# Altium footprint library drone_pcb1.PcbLib: 55 footprints (part 2 of 4)
Each footprint in its own frame and in the unit in brackets; x right, y up, seen from the top. Pads: shape width x height; smd on the part's side, far side on the other; paste and mask are expansions set on the pad; w line width, h text height; cw(c..) or ccw(c..) is an arc to the next point about the centre after c.
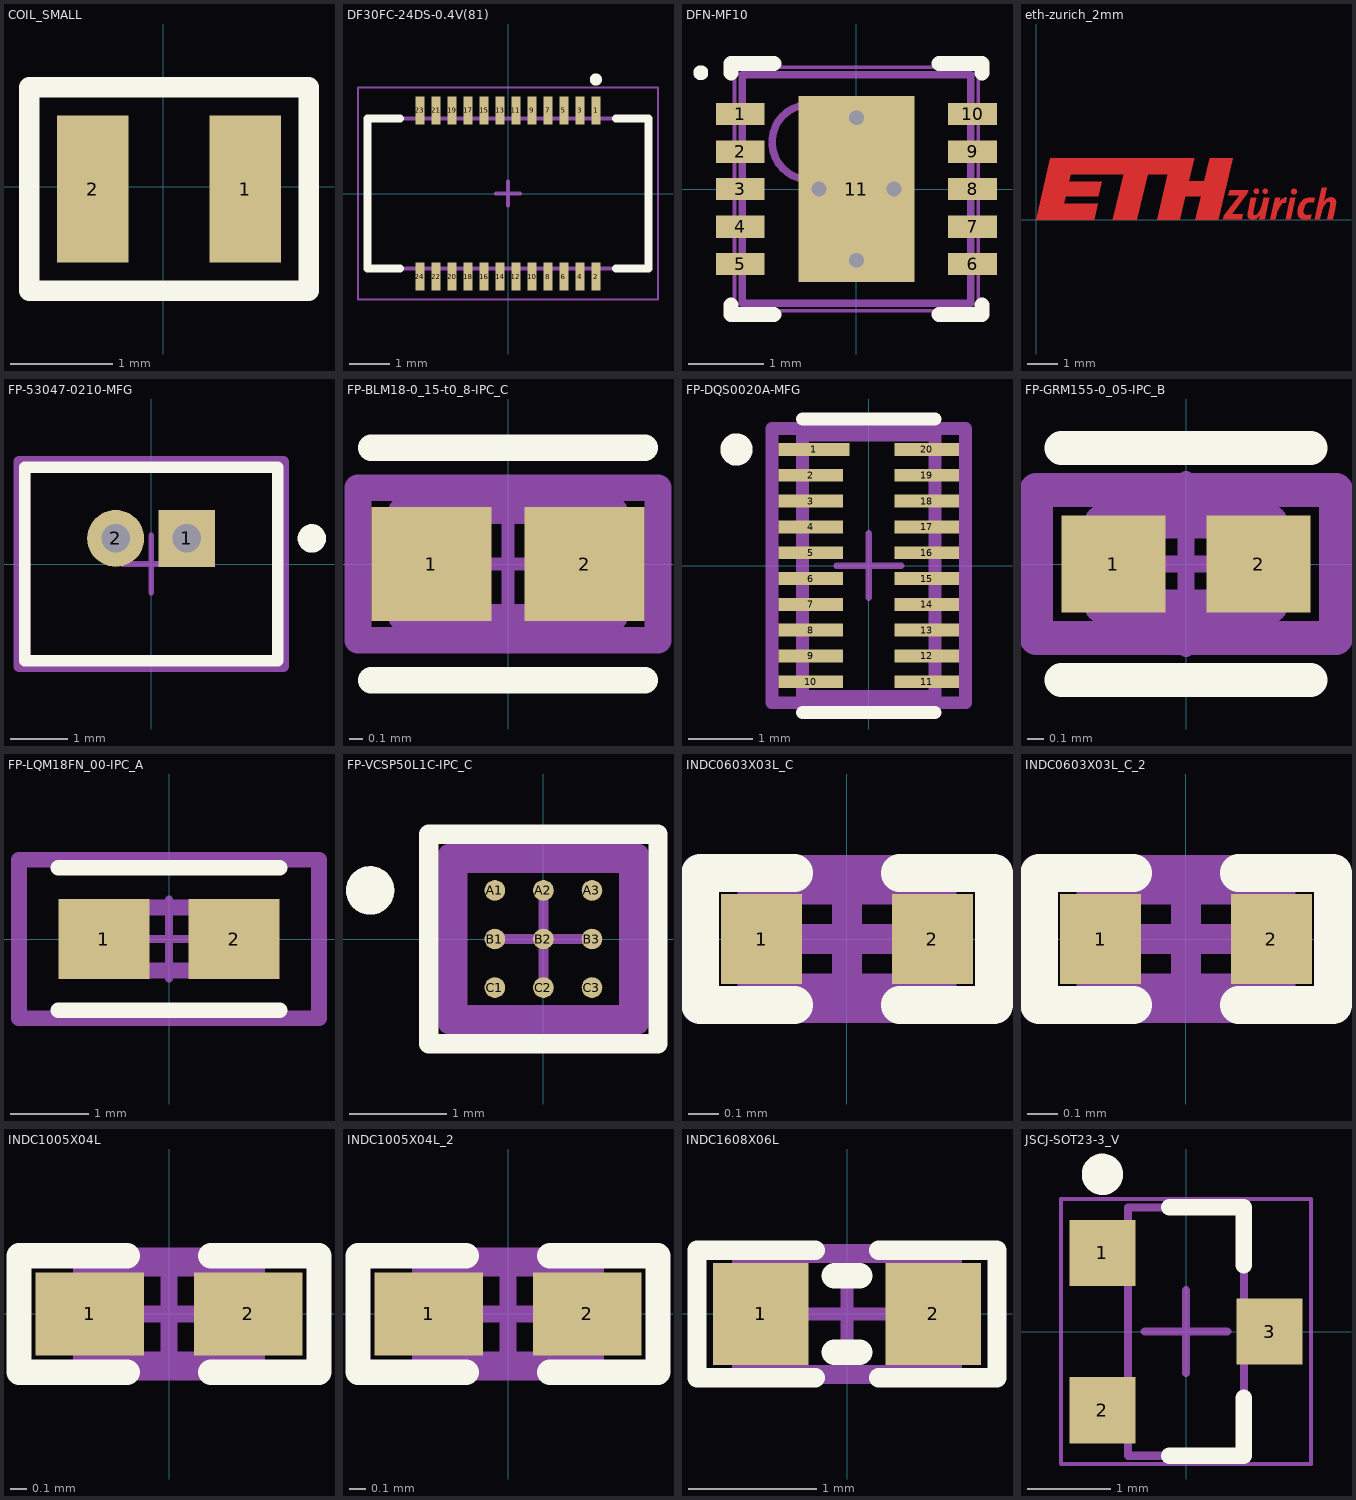
[diagram p1: the footprints below, top view; thin cyan lines are the x and y axes]

## COIL_SMALL [mm]
pads (2):
  rect 0.7x1.45 smd: 1(0.806,-0.02) 2(-0.694,-0.02)
Top Overlay:
  lines w0.2: -1.319,-1.02 -1.319,0.98 1.431,0.98 1.431,-0.02 1.431,-1.02 -1.319,-1.02
3D body: height 1, standoff 0, extent -0.95,-0.65 1.05,0.6

## DF30FC-24DS-0.4V(81) [mm] "CONN RCPT 24POS SMD GOLD"
height 0.9
pads (24):
  rect 0.23x0.7 smd mask+0.025: 1(2.2,2.08) 2(2.2,-2.08) 3(1.8,2.08) 4(1.8,-2.08) 5(1.4,2.08) 6(1.4,-2.08) 7(1,2.08) 8(1,-2.08) 9(0.6,2.08) 10(0.6,-2.08) 11(0.2,2.08) 12(0.2,-2.08) 13(-0.2,2.08) 14(-0.2,-2.08) 15(-0.6,2.08) 16(-0.6,-2.08) 17(-1,2.08) 18(-1,-2.08) 19(-1.4,2.08) 20(-1.4,-2.08) 21(-1.8,2.08) 22(-1.8,-2.08) 23(-2.2,2.08) 24(-2.2,-2.08)
Top Overlay:
  circle w0.254: c2.2,2.85 r0.025
  lines w0.2: -2.7,-1.88 -3.51,-1.88 -3.51,1.88 -2.7,1.88 ; 2.7,-1.88 3.51,-1.88 3.51,1.88 2.7,1.88
Mechanical 12:
  lines w0.1: -3.51,-1.88 -3.51,1.88 3.51,1.88 3.51,-1.88 -3.51,-1.88
Mechanical 15:
  lines w0.05: -3.75,-2.65 -3.75,2.65 3.75,2.65 3.75,-2.65 -3.75,-2.65
  lines w0.1: -0.3,0 0.3,0 ; 0,-0.3 0,0.3
3D body "DF30FC-24DS-0.4V.stp": height 0.91, standoff 0.01, extent -3.51,-2.28 3.51,2.28

## DFN-MF10 [mm] "SON, 10-Leads, Body 3x3mm, Pitch 0.5mm, Microchip Recommended"
height 1
pads (11):
  rect 0.65x0.3 smd: 1(-1.55,1) 2(-1.55,0.5) 3(-1.55,0) 4(-1.55,-0.5) 5(-1.55,-1) 6(1.55,-1) 7(1.55,-0.5) 8(1.55,0) 9(1.55,0.5) 10(1.55,1)
  rect 1.55x2.48 smd: 11(0,0)
via 0,-0.95 diameter 0.5 hole 0.2
via 0,0.95 diameter 0.5 hole 0.2
via 0.5,0 diameter 0.5 hole 0.2
via -0.5,0 diameter 0.5 hole 0.2
Top Overlay:
  circle w0.1: c-2.075,1.55 r0.05
  lines w0.2: -1.675,-1.55 -1.675,-1.675 -1.1,-1.675 ; -1.675,1.55 -1.675,1.675 -1.1,1.675 ; 1.1,-1.675 1.675,-1.675 1.675,-1.55 ; 1.1,1.675 1.675,1.675 1.675,1.55
Mechanical 13:
  circle w0.1: c-0.625,0.625 r0.5
  lines w0.1: -1.525,-1.525 1.525,-1.525 1.525,1.525 -1.525,1.525 -1.525,-1.525
Mechanical 15:
  lines w0.05: -1.625,-1.625 -1.625,1.625 1.625,1.625 1.625,-1.625 -1.625,-1.625
  lines w0.1: -0.5,0 0.5,0 ; 0,-0.5 0,0.5
3D body: height 1, standoff 0, extent -1.524,-1.524 1.524,1.524

## eth-zurich_2mm [mm] "Logo ETH Zurich"
height 15
Top Layer:
  circle w0.2: c8.399,0.915 r0.001
  circle w0.18: c7.462,0.926 r0.001
  circle w0.18: c7.176,0.926 r0.001
  region: 9.412,0.64 9.366,0.586 9.467,1.041 9.303,1.041 9.076,0.016 9.24,0.016 9.3,0.289 9.334,0.37 9.374,0.442 9.414,0.506 9.454,0.548 9.486,0.57 9.518,0.586 9.542,0.586 9.566,0.578 9.582,0.562 9.586,0.538 9.586,0.506 9.582,0.478 9.479,0.016 9.657,0.016 9.734,0.37 9.763,0.502 9.766,0.562 9.758,0.618 9.742,0.666 9.71,0.698 9.67,0.722 9.638,0.73 9.574,0.73 9.51,0.714 9.454,0.682
  region: 9.076,0.701 9.04,0.714 9,0.72 8.936,0.72 8.864,0.714 8.788,0.696 8.724,0.664 8.672,0.624 8.64,0.592 8.608,0.552 8.58,0.504 8.56,0.456 8.54,0.4 8.528,0.348 8.52,0.296 8.52,0.228 8.528,0.168 8.54,0.128 8.56,0.088 8.584,0.056 8.616,0.032 8.652,0.016 8.688,0.008 8.768,0 8.808,0 8.88,0.008 8.925,0.019 8.944,0.024 8.961,0.181 8.924,0.168 8.872,0.156 8.832,0.152 8.804,0.152 8.772,0.16 8.744,0.176 8.728,0.192 8.716,0.216 8.708,0.244 8.704,0.272 8.704,0.308 8.712,0.36 8.728,0.412 8.748,0.456 8.772,0.492 8.808,0.536 8.84,0.556 8.872,0.568 8.904,0.572 8.952,0.572 8.996,0.568 9.016,0.564 9.044,0.556
  region: 8.292,0.016 8.447,0.714 8.283,0.714 8.128,0.016
  region: 7.905,0.52 7.948,0.714 7.784,0.714 7.629,0.016 7.793,0.016 7.818,0.129 7.856,0.252 7.9,0.36 7.936,0.428 7.986,0.494 8.02,0.528 8.048,0.548 8.076,0.56 8.096,0.56 8.123,0.553 8.16,0.72 8.136,0.724 8.112,0.724 8.088,0.72 8.052,0.704 8.028,0.688 7.996,0.66 7.968,0.632 7.936,0.584
  region: 7.444,0.016 7.599,0.714 7.414,0.714 7.354,0.441 7.32,0.36 7.28,0.288 7.24,0.224 7.2,0.182 7.168,0.16 7.136,0.144 7.112,0.144 7.088,0.152 7.072,0.168 7.068,0.192 7.068,0.224 7.072,0.252 7.175,0.714 6.997,0.714 6.92,0.36 6.891,0.228 6.888,0.168 6.896,0.112 6.912,0.064 6.944,0.032 6.984,0.008 7.016,0 7.08,0 7.144,0.016 7.2,0.048 7.242,0.09 7.288,0.144 7.26,0.016
  region: 6.906,0.96 6.301,0.96 6.264,0.794 6.63,0.794 6.115,0.123 6.092,0.016 6.696,0.016 6.733,0.182 6.366,0.182 6.883,0.856
  region: 5.93,0 6.4,2 5.662,2 5.485,1.247 4.973,1.247 5.149,2 0.47,2 0,0 0.781,0 1.892,0 2.014,0.52 0.904,0.52 0.961,0.764 2.023,0.764 2.136,1.244 1.073,1.244 1.129,1.48 2.849,1.48 2.5,0 3.282,0 3.63,1.48 4.289,1.48 3.942,0 4.68,0 4.86,0.767 5.372,0.767 5.192,0
Top Solder:
  drawing of 10 lines, arcs and shapes, not listed

## FP-53047-0210-MFG [mm]
pads (2):
  rect 1x1 hole 0.5 paste-1000 mask+0: 1(0.625,0.45)
  round 1 hole 0.5 paste-1000 mask+0: 2(-0.625,0.45)
Top Overlay:
  circle w0.25: c2.825,0.45 r0.125
  lines w0.2: -2.225,-1.7 2.225,-1.7 2.225,1.7 -2.225,1.7 -2.225,-1.7
Top 3D Body:
  lines w0.2: -2.225,-1.7 2.225,-1.7 2.225,1.7 -2.225,1.7 -2.225,-1.7
Top Courtyard:
  lines w0.2: -2.325,-1.8 2.325,-1.8 2.325,1.8 -2.325,1.8 -2.325,-1.8
Top Assembly:
  lines w0.2: -2.325,-1.8 2.325,-1.8 2.325,1.8 -2.325,1.8 -2.325,-1.8
  text ".Designator" at 0,0.188 h1
Top Component Center:
  lines w0.1: -0.5,0 0.5,0 ; 0,-0.5 0,0.5
3D body "Conn_Molex_53047-0210_eec.STEP": height 4.4, standoff -2.3, extent -2.125,-1.603 2.125,1.598

## FP-BLM18-0_15-t0_8-IPC_C [mm]
pads (2):
  rect 0.906x0.858 smd paste+0 mask+0: 1(-0.576,0) 2(0.576,0)
Top Overlay:
  lines w0.2: -1.029,-0.875 1.029,-0.875 ; -1.029,0.875 1.029,0.875
Top 3D Body:
  lines w0.2: -0.8,-0.4 -0.8,0.4 0.8,0.4 0.8,-0.4 -0.8,-0.4
Top Courtyard:
  lines w0.2: -1.129,-0.575 -1.129,0.575 1.129,0.575 1.129,-0.575 -1.129,-0.575
Top Assembly:
  lines w0.2: -1.129,-0.575 -1.129,0.575 1.129,0.575 1.129,-0.575 -1.129,-0.575
  text ".Designator" at 0,0.188 h1
Top Component Center:
  lines w0.1: -0.5,0 0.5,0 ; 0,-0.5 0,0.5
3D body "FBead_Murata_BLM18EG221SN1D_eec.STEP": height 0.95, standoff 0, extent -0.8,-0.4 0.8,0.4

## FP-DQS0020A-MFG [mm]
pads (20):
  rect 1.1x0.2 smd paste-1000 mask+0: 1(-0.85,1.8)
  rect 1x0.2 smd paste-1000 mask+0: 2(-0.9,1.4) 3(-0.9,1) 4(-0.9,0.6) 5(-0.9,0.2) 6(-0.9,-0.2) 7(-0.9,-0.6) 8(-0.9,-1) 9(-0.9,-1.4) 10(-0.9,-1.8) 11(0.9,-1.8) 12(0.9,-1.4) 13(0.9,-1) 14(0.9,-0.6) 15(0.9,-0.2) 16(0.9,0.2) 17(0.9,0.6) 18(0.9,1) 19(0.9,1.4) 20(0.9,1.8)
Top Overlay:
  circle w0.25: c-2.05,1.8 r0.125
  lines w0.2: -1.025,-2.275 1.025,-2.275 ; -1.025,2.275 1.025,2.275
Top Paste:
  rectangle: 0.425,-1.9 1.375,-1.7
  rectangle: 0.425,-1.5 1.375,-1.3
  rectangle: 0.425,-1.1 1.375,-0.9
  rectangle: 0.425,-0.7 1.375,-0.5
  rectangle: 0.425,-0.3 1.375,-0.1
  rectangle: 0.425,0.1 1.375,0.3
  rectangle: 0.425,0.5 1.375,0.7
  rectangle: 0.425,0.9 1.375,1.1
  rectangle: 0.425,1.3 1.375,1.5
  rectangle: 0.425,1.7 1.375,1.9
  rectangle: -1.375,-1.9 -0.425,-1.7
  rectangle: -1.375,-1.5 -0.425,-1.3
  rectangle: -1.375,-1.1 -0.425,-0.9
  rectangle: -1.375,-0.7 -0.425,-0.5
  rectangle: -1.375,-0.3 -0.425,-0.1
  rectangle: -1.375,0.1 -0.425,0.3
  rectangle: -1.375,0.5 -0.425,0.7
  rectangle: -1.375,0.9 -0.425,1.1
  rectangle: -1.375,1.3 -0.425,1.5
  rectangle: -1.375,1.7 -0.325,1.9
Top 3D Body:
  lines w0.2: -1.025,-2.025 -1.025,2.025 1.025,2.025 1.025,-2.025 -1.025,-2.025
Top Courtyard:
  lines w0.2: -1.5,-2.125 -1.5,2.125 1.5,2.125 1.5,-2.125 -1.5,-2.125
Top Assembly:
  lines w0.2: -1.5,-2.125 -1.5,2.125 1.5,2.125 1.5,-2.125 -1.5,-2.125
  text ".Designator" at 0,0.188 h1
Top Component Center:
  lines w0.1: -0.5,0 0.5,0 ; 0,-0.5 0,0.5
3D body "IC_Texas_Instruments_TXB0108DQSR_eec.STEP": height 0.25, standoff 0, extent -1.5,-2.125 1.5,2.125

## FP-GRM155-0_05-IPC_B [mm]
pads (2):
  rect 0.615x0.572 smd paste+0 mask+0: 1(-0.429,0) 2(0.429,0)
Top Overlay:
  lines w0.2: -0.736,-0.686 0.736,-0.686 ; -0.736,0.686 0.736,0.686
Top 3D Body:
  lines w0.2: -0.5,-0.25 -0.5,0.25 0.5,0.25 0.5,-0.25 -0.5,-0.25
Top Courtyard:
  lines w0.2: -0.886,-0.436 -0.886,0.436 0.886,0.436 0.886,-0.436 -0.886,-0.436
Top Assembly:
  lines w0.2: -0.886,-0.436 -0.886,0.436 0.886,0.436 0.886,-0.436 -0.886,-0.436
  text ".Designator" at 0,0.188 h1
Top Component Center:
  lines w0.1: -0.5,0 0.5,0 ; 0,-0.5 0,0.5
3D body "Cap_Murata_GRM1552C1H271GA01J_eec.STEP": height 0.25, standoff 0, extent -0.886,-0.436 0.886,0.436

## FP-LQM18FN_00-IPC_A [mm]
pads (2):
  rect 1.158x1.012 smd paste+0 mask+0: 1(-0.827,0) 2(0.827,0)
Top Overlay:
  lines w0.2: -1.406,-0.906 1.406,-0.906 ; -1.406,0.906 1.406,0.906
Top 3D Body:
  lines w0.2: -0.8,-0.4 -0.8,0.4 0.8,0.4 0.8,-0.4 -0.8,-0.4
Top Courtyard:
  lines w0.2: -1.906,-1.006 -1.906,1.006 1.906,1.006 1.906,-1.006 -1.906,-1.006
Top Assembly:
  lines w0.2: -1.906,-1.006 -1.906,1.006 1.906,1.006 1.906,-1.006 -1.906,-1.006
  text ".Designator" at 0,0.188 h1
Top Component Center:
  lines w0.1: -0.5,0 0.5,0 ; 0,-0.5 0,0.5
3D body "Ind_Murata_LQM18FN4R7M00J_eec.STEP": height 0.25, standoff 0, extent -1.906,-1.006 1.906,1.006

## FP-VCSP50L1C-IPC_C [mm]
pads (9):
  round 0.212 smd paste+0 mask+0: A1(-0.5,0.5) A2(0,0.5) A3(0.5,0.5) B1(-0.5,0) B2(0,0) B3(0.5,0) C1(-0.5,-0.5) C2(0,-0.5) C3(0.5,-0.5)
Top Overlay:
  circle w0.25: c-1.785,0.5 r0.125
  lines w0.2: -1.18,-1.08 -1.18,1.08 1.18,1.08 1.18,-1.08 -1.18,-1.08
Top 3D Body:
  lines w0.2: -0.88,-0.78 -0.88,0.78 0.88,0.78 0.88,-0.78 -0.88,-0.78
Top Courtyard:
  lines w0.2: -0.98,-0.88 -0.98,0.88 0.98,0.88 0.98,-0.88 -0.98,-0.88
Top Assembly:
  lines w0.2: -0.98,-0.88 -0.98,0.88 0.98,0.88 0.98,-0.88 -0.98,-0.88
  text ".Designator" at 0,0.188 h1
Top Component Center:
  lines w0.1: -0.5,0 0.5,0 ; 0,-0.5 0,0.5
3D body "IC_Rohm_BD70522GUL-E2_eec.STEP": height 0.25, standoff 0, extent -0.98,-0.88 0.98,0.88

## INDC0603X03L_C [mm]
pads (2):
  rect 0.27x0.3 smd: 1(-0.285,0) 2(0.285,0)
Top Overlay:
  lines w0.125: -0.175,-0.22 -0.49,-0.22 -0.49,0.22 -0.175,0.22 ; 0.175,-0.22 0.49,-0.22 0.49,0.22 0.175,0.22
Mechanical 7:
  lines w0.1: -0.315,-0.165 0.315,-0.165 0.315,0.165 -0.315,0.165 -0.315,-0.165
  text ".Designator" at -0.457,0.152 h0.3
Mechanical 15:
  lines w0.1: -0.165,0 0.165,0 ; 0,-0.165 0,0.165 ; -0.5,-0.23 0.5,-0.23 0.5,0.23 -0.5,0.23 -0.5,-0.23
3D body "User Library-smt_inductor-0201.step": height 0.26, standoff -0.01, extent -0.31,-0.16 0.31,0.16

## INDC0603X03L_C_2 [mm]
pads (2):
  rect 0.27x0.3 smd: 1(-0.285,0) 2(0.285,0)
Top Overlay:
  lines w0.125: -0.175,-0.22 -0.49,-0.22 -0.49,0.22 -0.175,0.22 ; 0.175,-0.22 0.49,-0.22 0.49,0.22 0.175,0.22
Mechanical 7:
  lines w0.1: -0.315,-0.165 -0.315,0.165 0.315,0.165 0.315,-0.165 -0.315,-0.165
  text ".Designator" at -0.306,0.268 h0.3
Mechanical 15:
  lines w0.1: -0.165,0 0.165,0 ; 0,-0.165 0,0.165 ; -0.5,-0.23 -0.5,0.23 0.5,0.23 0.5,-0.23 -0.5,-0.23
3D body "User Library-smt_inductor-0201.step": height 0.26, standoff -0.01, extent -0.31,-0.16 0.31,0.16

## INDC1005X04L [mm]
pads (2):
  rect 0.65x0.5 smd: 1(-0.475,0) 2(0.475,0)
Top Overlay:
  lines w0.152: -0.25,-0.35 -0.9,-0.35 -0.9,0.35 -0.25,0.35 ; 0.25,-0.35 0.9,-0.35 0.9,0.35 0.25,0.35
Mechanical 7:
  lines w0.1: -0.525,-0.275 -0.525,0.275 0.525,0.275 0.525,-0.275 -0.525,-0.275
  text ".Designator" at -0.229,-0.142 h0.3
Mechanical 15:
  lines w0.1: -0.275,0 0.275,0 ; 0,-0.275 0,0.275 ; -0.9,-0.35 -0.9,0.35 0.9,0.35 0.9,-0.35 -0.9,-0.35
3D body "User Library-Chip Inductor 0402.step": height 0.5, standoff 0, extent -0.5,-0.3 0.5,0.3

## INDC1005X04L_2 [mm]
pads (2):
  rect 0.65x0.5 smd: 1(-0.475,0) 2(0.475,0)
Top Overlay:
  lines w0.152: -0.25,-0.35 -0.9,-0.35 -0.9,0.35 -0.25,0.35 ; 0.25,-0.35 0.9,-0.35 0.9,0.35 0.25,0.35
Mechanical 7:
  lines w0.1: -0.525,-0.275 0.525,-0.275 0.525,0.275 -0.525,0.275 -0.525,-0.275
  text ".Designator" at -0.432,-0.152 h0.3
Mechanical 15:
  lines w0.1: -0.275,0 0.275,0 ; 0,-0.275 0,0.275 ; -0.9,-0.35 0.9,-0.35 0.9,0.35 -0.9,0.35 -0.9,-0.35
3D body "User Library-Chip Inductor 0402.step": height 0.5, standoff 0, extent -0.5,-0.3 0.5,0.3

## INDC1608X06L [mm]
pads (2):
  rect 0.75x0.8 smd: 1(-0.675,0) 2(0.675,0)
Top Overlay:
  lines w0.152: -0.25,-0.5 -1.175,-0.5 -1.175,0.5 -0.25,0.5 ; 0.25,-0.5 1.175,-0.5 1.175,0.5 0.25,0.5
  lines w0.2: -0.1,-0.3 0.1,-0.3 ; -0.1,0.3 0.1,0.3
Mechanical 7:
  lines w0.1: -0.85,-0.45 0.85,-0.45 0.85,0.45 -0.85,0.45 -0.85,-0.45
  text ".Designator" at -0.214,-0.152 h0.3
Mechanical 15:
  lines w0.1: -0.45,0 0.45,0 ; 0,-0.45 0,0.45 ; -1.175,-0.5 -1.175,0.5 1.175,0.5 1.175,-0.5 -1.175,-0.5
3D body "User Library-Chip Inductor.step": height 0.8, standoff 0, extent -0.8,-0.475 0.8,0.475

## JSCJ-SOT23-3_V [mm] "SOT23, 3-Leads, Body 3x1.4mm, Pitch 0.95mm"
height 1.15
pads (3):
  rect 0.8x0.8 smd: 1(-1.01,0.95) 2(-1.01,-0.95) 3(1.01,0)
Top Overlay:
  circle w0.25: c-1.01,1.9 r0.125
  lines w0.2: -0.2,-1.5 0.7,-1.5 0.7,-0.8 ; -0.2,1.5 0.7,1.5 0.7,0.8
Mechanical 13:
  lines w0.1: -0.7,-1.5 -0.7,1.5 0.7,1.5 0.7,-1.5 -0.7,-1.5
Mechanical 15:
  lines w0.05: -1.51,-1.6 -1.51,1.6 1.51,1.6 1.51,-1.6 -1.51,-1.6
  lines w0.1: -0.5,0 0.5,0 ; 0,-0.5 0,0.5
3D body "SOT95P240X115-3L.step": height 1.15, standoff 0, extent -1.275,-1.5 1.275,1.5